# Altium footprint library FUSE_PTC_RAD_HORZ_300x100.PcbLib: 1 footprints
Each footprint in its own frame and in the unit in brackets; x right, y up, seen from the top. Pads: shape width x height; smd on the part's side, far side on the other; paste and mask are expansions set on the pad; w line width, h text height; cw(c..) or ccw(c..) is an arc to the next point about the centre after c.
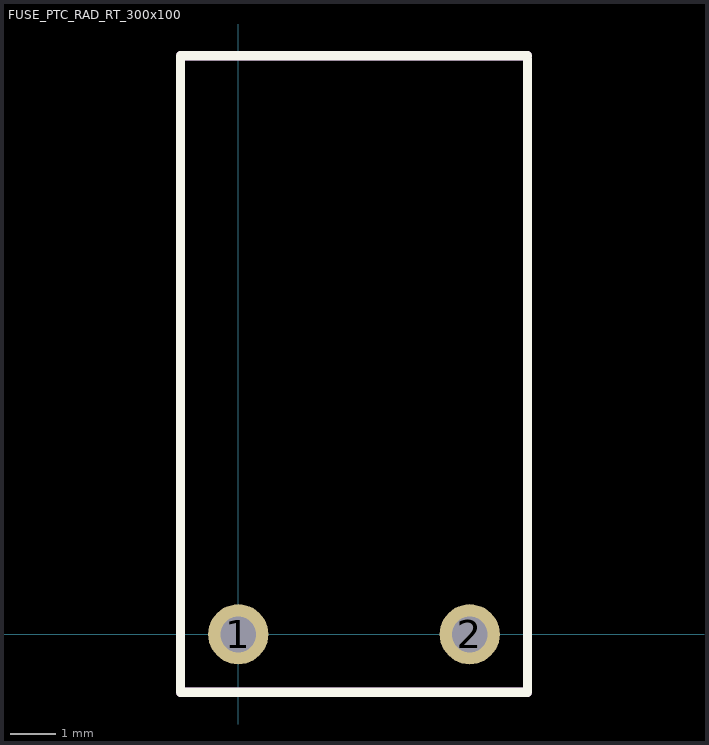
[diagram p0: the footprint, top view; thin cyan lines are the x and y axes]

## FUSE_PTC_RAD_RT_300x100 [mil]
pads (2):
  round 52 hole 31: 1(0,0) 2(200,0)
Top Overlay:
  lines w8: 250,497.5 250,-50 -50,-50 -50,500 250,500
Mechanical 1:
  lines w8: -50,-50 -50,500 250,500 250,-50 -50,-50